# Altium footprint library PCB - DIODES - SEOUL SEMICONDUCTOR 3030.PcbLib: 1 footprints
Each footprint in its own frame and in the unit in brackets; x right, y up, seen from the top. Pads: shape width x height; smd on the part's side, far side on the other; paste and mask are expansions set on the pad; w line width, h text height; cw(c..) or ccw(c..) is an arc to the next point about the centre after c.
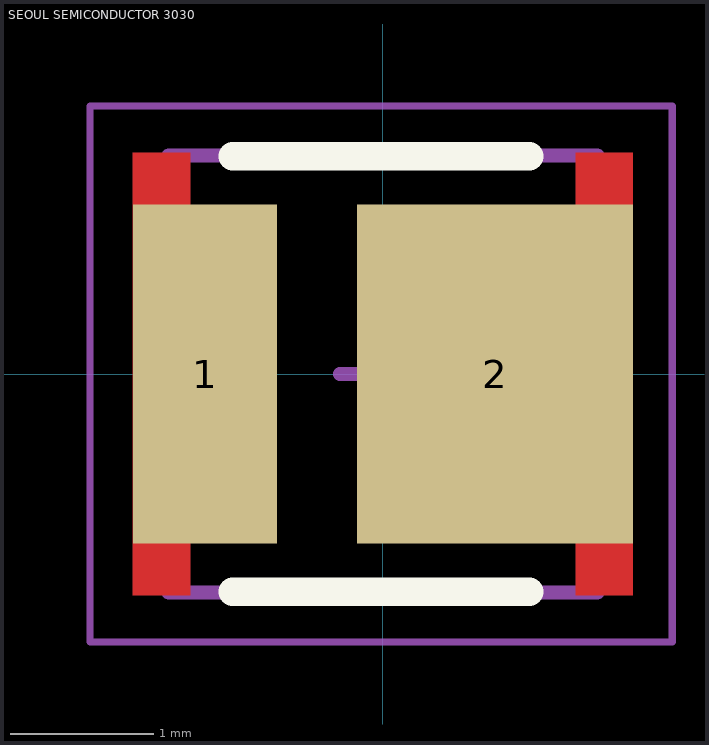
[diagram p0: the footprint, top view; thin cyan lines are the x and y axes]

## SEOUL SEMICONDUCTOR 3030 [mm] "Led 3030, 2 leads, body 3x3mm, SEOUL SEMICONDUCTOR S1S0-3030359503-0000003S-00001"
height 0.8
pads (2):
  rect 1.01x2.37 smd mask+0.1: 1(-1.245,0)
  rect 1.93x2.37 smd mask+0.1: 2(0.785,0)
Top Layer:
  region: -1.75,-1.55 -1.35,-1.55 -1.35,1.55 -1.75,1.55
  region: 1.75,-1.55 1.35,-1.55 1.35,1.55 1.75,1.55
Top Overlay:
  lines w0.2: -1.05,-1.525 1.025,-1.525 ; -1.05,1.525 1.025,1.525
Mechanical 13:
  lines w0.1: -1.5,-1.53 1.5,-1.53 1.5,1.53 -1.5,1.53 -1.5,-1.53
Mechanical 15:
  lines w0.05: -2.05,-1.875 2.025,-1.875 2.025,1.875 -2.05,1.875 -2.05,-1.875
Mechanical 2 (Mech9):
  lines w0.1: -0.3,0 0.3,0 ; 0,-0.3 0,0.3
3D body "Seoul Semiconductor - 3030 - 0.8mm.step": height 0.8, standoff 0, extent -1.5,-1.53 1.5,1.53